# EAGLE library part 78800-0001 (library 78800-0001)
Molex 78800 Series Vertical Hinged Micro SIM Card Connector with SMT Termination Source: Datasheet <https://www.molex.com/pdm_docs/sd/788000001_sd.pdf>
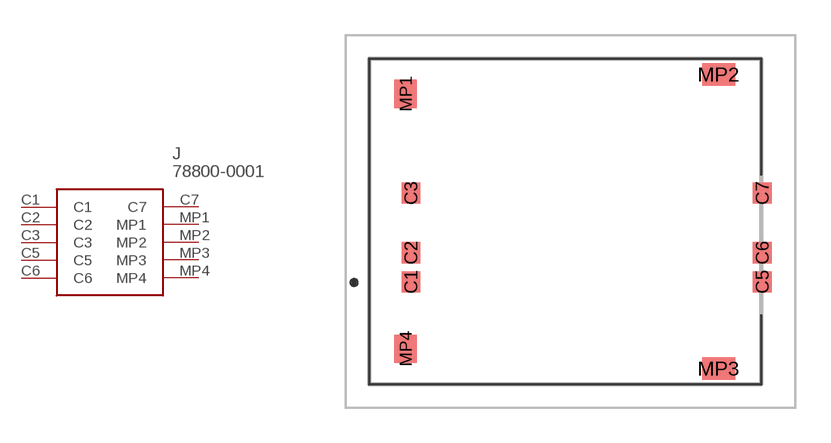
[diagram p0: symbol with the pads of 788000001; footprint 788000001]

Designator prefix J

## 78800-0001 (Description: Molex 78800 Series Vertical Hinged Micro SIM Card Connector with SMT Termination; Height: 1mm; Manufacturer_Name: Molex; Manufacturer_Part_Number: 78800-0001; Mouser_Part_Number: 538-78800-0001; Mouser_Price-Stock: https://www.mouser.co.uk/ProductDetail/Molex/78800-0001?qs=aW78vNDzAorsg%2FJdp7zzAQ%3D%3D)  [788000001]
C1  C1
C2  C2
C3  C3
C5  C5
C6  C6
C7  C7
MP1  MP1
MP2  MP2
MP3  MP3
MP4  MP4

## Footprint 788000001 (pad centres in mm)
78800-0001
smd 0.8 x 0.9: C1 -6.585,-2.57; C2 -6.585,-1.33; C3 -6.585,1.21; C5 8.355,-2.57; C6 8.355,-1.33; C7 8.355,1.21
smd 0.95 x 1.2: MP1 -6.815,5.425; MP4 -6.815,-5.425
smd 1.4 x 0.95: MP2 6.495,6.26; MP3 6.495,-6.26